# EAGLE library part MIKROBUS (library UNIT_Biblioteca_Modulos)
mikroBUS Source: Datasheet <https://download.mikroe.com/documents/standards/mikrobus/mikrobus-standard-specification-v200.pdf> SKU: Propietario: UNIT Electronics Desarrollador: Alberto Villanueva
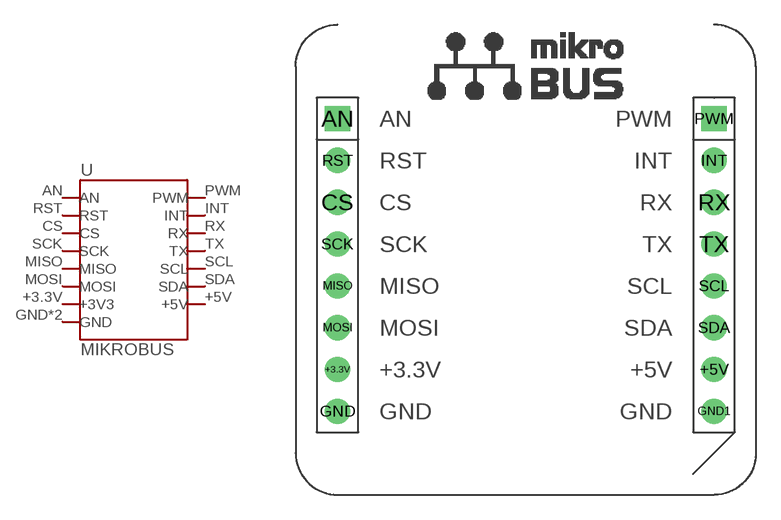
[diagram p22: symbol with the pads of MIKROBUS; footprint MIKROBUS]

Designator prefix U

## MIKROBUS (CLASS: Modules; DESCRIPTION: mikroBUS)  [MIKROBUS]
+3.3V  +3V3
+5V  +5V
AN  AN
CS  CS
GND  GND
GND1  GND
INT  INT
MISO  MISO
MOSI  MOSI
PWM  PWM
RST  RST
RX  RX
SCK  SCK
SCL  SCL
SDA  SDA
TX  TX

## Footprint MIKROBUS (pad centres in mm)
drill 1.02: +3.3V -11.43,-6.665; +5V 11.43,-6.665; CS -11.43,3.495; GND -11.43,-9.205; GND1 11.43,-9.205; INT 11.43,6.035; MISO -11.43,-1.585; MOSI -11.43,-4.125; RST -11.43,6.035; RX 11.43,3.495; SCK -11.43,0.955; SCL 11.43,-1.585; SDA 11.43,-4.125; TX 11.43,0.955
drill 1.02 square: AN -11.43,8.575; PWM 11.43,8.575